# Altium footprint library Footprint_Emile.PcbLib: 30 footprints (part 1 of 2)
Each footprint in its own frame and in the unit in brackets; x right, y up, seen from the top. Pads: shape width x height; smd on the part's side, far side on the other; paste and mask are expansions set on the pad; w line width, h text height; cw(c..) or ccw(c..) is an arc to the next point about the centre after c.
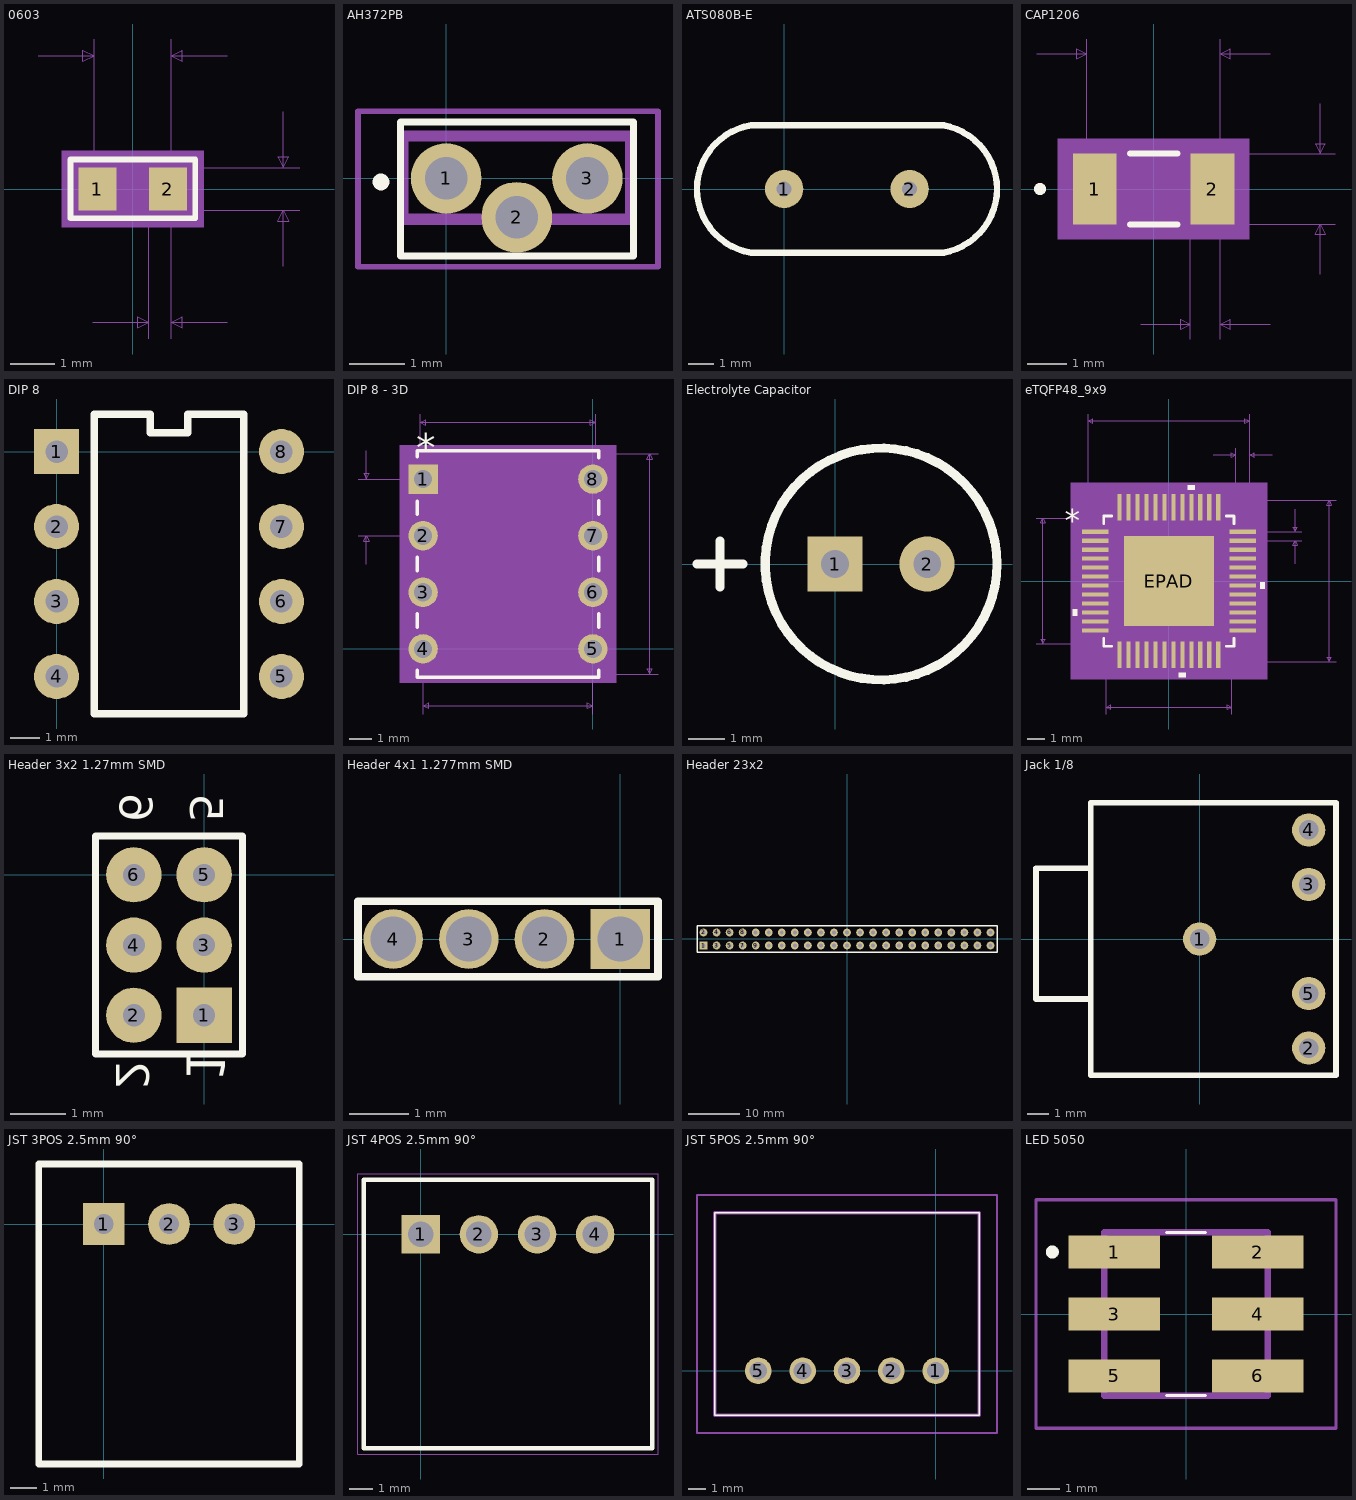
[diagram p0: the footprints below, top view; thin cyan lines are the x and y axes]

## 0603 [mil]
pads (2):
  rect 34x38 smd: 1(-31.5,0) 2(31.5,0)
Top Overlay:
  lines w5: -55.51,-25.98 55.91,-25.98 55.91,26.38 -55.51,26.38 -55.51,-25.98
Mechanical 5:
  region: 63.5,-34 -63.5,-34 -63.5,34 63.5,34
Mechanical 7:
  lines w1: -84.5,119 -34.5,119 ; -35.5,-119 14.5,-119 ; -34.5,0 -34.5,134 ; 0,-19 149.5,-19 ; 0,19 149.5,19 ; 14.5,-134 14.5,0 ; 34.5,-134 34.5,0 34.5,134 ; 84.5,-119 34.5,-119 ; 84.5,119 34.5,119 ; 134.5,-69 134.5,-19 ; 134.5,69 134.5,19 ; -34.5,119 -44.5,114 -44.5,124 -34.5,119 ; 14.5,-119 4.5,-124 4.5,-114 14.5,-119 ; 34.5,-119 44.5,-124 44.5,-114 34.5,-119 ; 34.5,119 44.5,114 44.5,124 34.5,119 ; 134.5,-19 139.5,-29 129.5,-29 134.5,-19 ; 134.5,19 139.5,29 129.5,29 134.5,19
  text "0.02in/0.508mm" at -63,-164 h25
  text "0.069in/1.753mm" at -93.75,139 h25
  text "0.038in/0.965mm" at 154.5,-12.5 h25
  text "Alternate 2 Padstyle: OX90Y60D30P" at -412.5,-489 h50
  text "Alternate 1 Padstyle: OX60Y90D30P" at -412.5,-389 h50
  text "Default Padstyle: RX34Y38D0T" at -350,-289 h50
Mechanical 13:
  lines w1: -34.5,-19 -34.5,19 ; -34.5,-19 34.5,-19 ; -34.5,-19 -14.5,-19 -14.5,19 -34.5,19 ; -34.5,-19 -34.5,19 ; -34.5,19 34.5,19 ; 34.5,-19 34.5,19 ; 34.5,-19 34.5,19 ; 34.5,-19 14.5,-19 14.5,19 34.5,19
Mechanical 15:
  region: 58.5,-29 -58.5,-29 -58.5,29 58.5,29
  lines w6: -58.5,-29 58.5,-29 58.5,29 -58.5,29 -58.5,-29
3D body: height 10, standoff 0, extent 0,0 10,10
3D body "0603.step": height 35, standoff 0, extent -34.48,-19.01 34.5,19.02

## AH372PB [mil]
pads (3):
  round 50 hole 30: 1(0,0) 2(50,-27.56) 3(100,0)
Top Overlay:
  lines w5: -32.5,-55 -32.5,40 132.5,40 132.5,-55 -32.5,-55
  lines w7.87: -48.19,-2.5 cw(c-46.22,-2.5) -44.25,-2.5 cw(c-46.22,-2.5) -48.19,-2.5
Mechanical 13:
  lines w7.87: -30.71,-28.94 -30.71,30.12 130.71,30.12 130.71,-28.94 -30.71,-28.94
Mechanical 15:
  lines w3.94: -62.5,-62.5 -62.5,47.5 150,47.5 150,-62.5 -62.5,-62.5

## ATS080B-E [mil] "Crystal/ Oscillator 8MHz"
height 144.88
pads (2):
  round 60 hole 23.62: 1(0,0) 2(196.85,0)
Top Overlay:
  lines w10: -51.71,-100 cw(c-35.43,0) -51.71,100 ; -50,-100 250,-100 ; -50,100 250,100 ; 249.41,-100 ccw(c232.28,0) 249.41,100
3D body: height 157.48, standoff 0, extent -50,-100 249.41,100
3D body: height 157.48, standoff 0, extent -151.18,-99.87 48.82,99.88
3D body: height 157.48, standoff 0, extent 148.04,-99.87 348.04,99.88
3D body: height 106.3, standoff 0, extent -129.92,102.36 -129.92,102.36
3D body: height 106.3, standoff 0, extent -50,100 -50,100

## CAP1206 [mil]
pads (2):
  rect 44x71 smd: 1(-59,0) 2(59,0)
Top Overlay:
  circle w6: c-114,0 r3
  lines w6: -23.9,-35.5 23.9,-35.5 ; -23.9,35.5 23.9,35.5
Mechanical 5:
  region: 96,-50.5 -96,-50.5 -96,50.5 96,50.5
Mechanical 7:
  lines w1: -117,135.5 -67,135.5 ; -67,0 -67,150.5 ; -13,-135.5 37,-135.5 ; 0,-35.5 182,-35.5 ; 0,35.5 182,35.5 ; 37,-150.5 37,0 ; 67,-150.5 67,0 67,150.5 ; 117,-135.5 67,-135.5 ; 117,135.5 67,135.5 ; 167,-85.5 167,-35.5 ; 167,85.5 167,35.5 ; -67,135.5 -77,140.5 -77,130.5 -67,135.5 ; 37,-135.5 27,-130.5 27,-140.5 37,-135.5 ; 67,-135.5 77,-130.5 77,-140.5 67,-135.5 ; 67,135.5 77,140.5 77,130.5 67,135.5 ; 167,-35.5 162,-45.5 172,-45.5 167,-35.5 ; 167,35.5 162,45.5 172,45.5 167,35.5
  text "Default Padstyle: RX44Y71D0T" at -350,-305.5 h50
  text "Alternate 1 Padstyle: OX60Y90D30P" at -412.5,-405.5 h50
  text "Alternate 2 Padstyle: OX90Y60D30P" at -412.5,-505.5 h50
  text "0.071in/1.803mm" at 187,-12.5 h25
  text "0.134in/3.404mm" at -93.75,155.5 h25
  text "0.03in/0.762mm" at -35.5,-180.5 h25
Mechanical 13:
  circle w0: c-114,0 r3
  lines w1: -67,-35.5 -67,35.5 ; -67,-35.5 -37,-35.5 -37,35.5 -67,35.5 ; -67,-35.5 67,-35.5 ; -67,-35.5 -67,35.5 ; -67,35.5 67,35.5 ; 67,-35.5 37,-35.5 37,35.5 67,35.5 ; 67,-35.5 67,35.5 ; 67,-35.5 67,35.5
Mechanical 15:
  region: 91,-45.5 -91,-45.5 -91,45.5 91,45.5
  lines w6: -91,-45.5 -91,45.5 91,45.5 91,-45.5 -91,-45.5
3D body "C1206.step": height 37.01, standoff 0, extent -67,-35.51 67.01,35.52
3D body: height 10, standoff 0, extent 0,0 10,10

## DIP 8 [mil]
pads (8):
  rect 60x60 hole 30: 1(0,0)
  round 60 hole 30: 2(0,-100) 3(0,-200) 4(0,-300) 5(300,-300) 6(300,-200) 7(300,-100) 8(300,0)
Top Overlay:
  lines w10: 50,-350 50,-300 50,50 125,50 125,25 175,25 175,50 250,50 250,-350 50,-350

## DIP 8 - 3D [mil]
pads (8):
  rect 52x52 hole 32: 1(-300,300)
  round 52 hole 32: 2(-300,200) 3(-300,100) 4(-300,0) 5(0,0) 6(0,100) 7(0,200) 8(0,300)
Top Overlay:
  lines w6: -310,-37.8 -310,-50 10,-50 10,-37.8 ; -310,37.8 -310,62.2 ; -310,137.8 -310,162.2 ; -310,237.8 -310,260.9 ; -310,339.1 -310,350 10,350 10,337.8 ; 10,37.8 10,62.2 ; 10,137.8 10,162.2 ; 10,237.8 10,262.2
  text "*" at -312.5,331 h50
Mechanical 5:
  region: 41,-60 -341,-60 -341,360 41,360
Mechanical 7:
  lines w1: -415,200 -300,200 ; -415,300 -300,300 ; -400,150 -400,200 ; -400,350 -400,300 ; -305,0 -305,415 ; -300,-115 -300,0 ; -150,-45 115,-45 ; -150,345 115,345 ; 0,-115 0,0 ; 5,0 5,415 ; -400,200 -405,190 -395,190 -400,200 ; -400,300 -405,310 -395,310 -400,300 ; -305,400 5,400 ; -305,400 -295,405 -295,395 -305,400 ; -300,-100 0,-100 ; -300,-100 -290,-95 -290,-105 -300,-100 ; 0,-100 -10,-95 -10,-105 0,-100 ; 5,400 -5,405 -5,395 5,400 ; 100,-45 100,345 ; 100,-45 95,-35 105,-35 100,-45 ; 100,345 95,335 105,335 100,345
  text "Default Padstyle: EX52Y52D32P" at -512.5,-276 h50
  text "Pin 1 Padstyle: SX52Y52D32P" at -487.5,-376 h50
  text "Alt 1 Padstyle: OX60Y90D30P" at -487.5,-426 h50
  text "Alt 2 Padstyle: OX90Y60D30P" at -487.5,-476 h50
  text "0.1in/2.54mm" at -570,237.5 h25
  text "0.3in/7.62mm" at -225,-145 h25
  text "0.31in/7.874mm" at -237.5,420 h25
  text "0.39in/9.906mm" at 120,137.5 h25
Mechanical 13:
  lines w0: -162,345 ccw(c-150,345) -138,345
  lines w1: -316,-16 -316,16 -305,16 -305,-16 -316,-16 ; -316,84 -316,116 -305,116 -305,84 -316,84 ; -316,184 -316,216 -305,216 -305,184 -316,184 ; -316,284 -316,316 -305,316 -305,284 -316,284 ; -305,-45 5,-45 5,345 -305,345 -305,-45 ; 5,-16 5,16 16,16 16,-16 5,-16 ; 5,84 5,116 16,116 16,84 5,84 ; 5,184 5,216 16,216 16,184 5,184 ; 5,284 5,316 16,316 16,284 5,284
  text "*" at -307.5,275 h50
Mechanical 15:
  region: 15,-10 36,-10 36,310 15,310 15,355 -315,355 -315,310 -336,310 -336,-10 -315,-10 -315,-55 15,-55
  lines w6: -336,-10 -336,310 -315,310 -315,355 15,355 15,310 36,310 36,-10 15,-10 15,-55 -315,-55 -315,-10 -336,-10
3D body "MAX485.step": height 185.12, standoff -100, extent -309.61,-45 5,345
3D body: height 10, standoff 0, extent 0,0 10,10

## Electrolyte Capacitor [mil]
pads (2):
  rect 60x60 hole 30: 1(0,0)
  round 60 hole 30: 2(100,0)
Top Overlay:
  circle w10: c50,0 r125.98
  lines w10: -150,0 -100,0 ; -125,-25 -125,0 -125,25

## eTQFP48_9x9 [mil]
pads (49):
  rect 58x9 smd paste+0 mask+0: 1(-162,108.27) 2(-162,88.58) 3(-162,68.9) 4(-162,49.21) 5(-162,29.53) 6(-162,9.84) 7(-162,-9.84) 8(-162,-29.53) 9(-162,-49.21) 10(-162,-68.9) 11(-162,-88.58) 12(-162,-108.27) 25(162,-108.27) 26(162,-88.58) 27(162,-68.9) 28(162,-49.21) 29(162,-29.53) 30(162,-9.84) 31(162,9.84) 32(162,29.53) 33(162,49.21) 34(162,68.9) 35(162,88.58) 36(162,108.27)
  rect 9x58 smd paste+0 mask+0: 13(-108.27,-162) 14(-88.58,-162) 15(-68.9,-162) 16(-49.21,-162) 17(-29.53,-162) 18(-9.84,-162) 19(9.84,-162) 20(29.53,-162) 21(49.21,-162) 22(68.9,-162) 23(88.58,-162) 24(108.27,-162) 37(108.27,162) 38(88.58,162) 39(68.9,162) 40(49.21,162) 41(29.53,162) 42(9.84,162) 43(-9.84,162) 44(-29.53,162) 45(-49.21,162) 46(-68.9,162) 47(-88.58,162) 48(-108.27,162)
  rect 197x197 smd paste-98 mask+0: EPAD(0,0)
Top Overlay:
  region: -201,-61.4 -211,-61.4 -211,-76.4 -201,-76.4
  region: 37.03,-201 22.03,-201 22.03,-211 37.03,-211
  region: 201,-2.34 211,-2.34 211,-17.34 201,-17.34
  region: 56.71,201 41.71,201 41.71,211 56.71,211
  lines w6: -143,-125.87 -143,-143 -125.87,-143 ; -143,125.87 -143,143 -125.87,143 ; 125.87,-143 143,-143 143,-125.87 ; 125.87,143 143,143 143,125.87
  text "*" at -228.5,108.11 h50
Top Paste:
  region: -36.77,94.56 -94.56,94.56 -94.56,36.77 -36.77,36.77
  region: -36.77,28.9 -94.56,28.9 -94.56,-28.9 -36.77,-28.9
  region: -36.77,-36.77 -94.56,-36.77 -94.56,-94.56 -36.77,-94.56
  region: 28.9,94.56 -28.9,94.56 -28.9,36.77 28.9,36.77
  region: 28.9,28.9 -28.9,28.9 -28.9,-28.9 28.9,-28.9
  region: 28.9,-36.77 -28.9,-36.77 -28.9,-94.56 28.9,-94.56
  region: 94.56,94.56 36.77,94.56 36.77,36.77 94.56,36.77
  region: 94.56,28.9 36.77,28.9 36.77,-28.9 94.56,-28.9
  region: 94.56,-36.77 36.77,-36.77 36.77,-94.56 94.56,-94.56
Mechanical 5:
  region: 216,-216 -216,-216 -216,216 216,216
Mechanical 7:
  lines w1: -292,-138 -108.27,-138 ; -292,138 -108.27,138 ; -177,108.27 -177,367 ; -138,-292 -138,-108.27 ; 97,277 147,277 ; 108.27,-177 367,-177 ; 108.27,177 367,177 ; 138,-292 138,-108.27 ; 147,108.27 147,292 ; 162,88.58 292,88.58 ; 162,108.27 292,108.27 ; 177,292 177,108.27 177,367 ; 227,277 177,277 ; 277,38.58 277,88.58 ; 277,158.27 277,108.27 ; -277,-138 -277,138 ; -277,-138 -282,-128 -272,-128 -277,-138 ; -277,138 -282,128 -272,128 -277,138 ; -177,352 177,352 ; -177,352 -167,357 -167,347 -177,352 ; -138,-277 138,-277 ; -138,-277 -128,-272 -128,-282 -138,-277 ; 138,-277 128,-272 128,-282 138,-277 ; 147,277 137,282 137,272 147,277 ; 177,277 187,282 187,272 177,277 ; 177,352 167,357 167,347 177,352 ; 277,88.58 272,78.58 282,78.58 277,88.58 ; 277,108.27 272,118.27 282,118.27 277,108.27 ; 352,-177 352,177 ; 352,-177 347,-167 357,-167 352,-177 ; 352,177 347,167 357,167 352,177
  text "Default Horiz Padstyle: RX9Y58D0T" at -412.5,-427 h50
  text "Default Vert Padstyle: RX9Y58D0T" at -400,-487 h50
  text "Heat Tab Padstyle: RX197Y197D0T" at -387.5,-547 h50
  text "Alt 1 Padstyle: OX60Y90D30P" at -337.5,-667 h50
  text "Alt 2 Padstyle: OX90Y60D30P" at -337.5,-727 h50
  text "0.02in/0.5mm" at 297,85.93 h25
  text "0.03in/0.762mm" at 74.5,297 h25
  text "0.354in/8.992mm" at -93.75,372 h25
  text "0.276in/7.01mm" at -87.5,-322 h25
  text "0.276in/7.01mm" at -472,-12.5 h25
  text "0.354in/8.992mm" at 372,-12.5 h25
Mechanical 13:
  drawing of 197 lines, arcs and shapes, not listed
  text "*" at -135.5,93.11 h50
Mechanical 15:
  region: -122.77,-148 -148,-148 -148,-122.77 -201,-122.77 -201,122.77 -148,122.77 -148,148 -122.77,148 -122.77,201 122.77,201 122.77,148 148,148 148,122.77 201,122.77 201,-122.77 148,-122.77 148,-148 122.77,-148 122.77,-201 -122.77,-201
  lines w6: -201,-122.77 -148,-122.77 -148,-148 -122.77,-148 -122.77,-201 122.77,-201 122.77,-148 148,-148 148,-122.77 201,-122.77 201,122.77 148,122.77 148,148 122.77,148 122.77,201 -122.77,201 -122.77,148 -148,148 -148,122.77 -201,122.77 -201,-122.77
3D body: height 10, standoff 0, extent 0,0 10,10
3D body "TMC2130.step": height 47.09, standoff -2.01, extent -177,-177 177.01,177.01

## Header 3x2 1.27mm SMD [mm]
pads (6):
  rect 1x1 hole 0.4: 1(0,-2.54)
  round 1 hole 0.4: 2(-1.27,-2.54) 3(0,-1.27) 4(-1.27,-1.27) 5(0,0) 6(-1.27,0)
Top Overlay:
  lines w0.127: -1.968,-3.238 0.699,-3.238 0.699,0.699 -1.968,0.699 -1.968,-3.238
  text "5" at -0.254,0.953 h0.6
  text "6" at -1.524,0.953 h0.6
  text "2" at -1.587,-3.873 h0.6
  text "1" at -0.318,-3.746 h0.7

## Header 4x1 1.277mm SMD [mm]
pads (4):
  rect 1x1 hole 0.762: 1(0,0)
  round 1 hole 0.762: 2(-1.27,0) 3(-2.54,0) 4(-3.81,0)
Top Overlay:
  lines w0.127: -4.4,-0.635 -4.4,0.635 0.635,0.635 0.635,-0.635 -4.4,-0.635

## Header 23x2 [mil]
pads (46):
  rect 60x60 hole 30: 1(-1100,-50)
  round 60 hole 30: 2(-1100,50) 3(-1000,-50) 4(-1000,50) 5(-900,-50) 6(-900,50) 7(-800,-50) 8(-800,50) 9(-700,-50) 10(-700,50) 11(-600,-50) 12(-600,50) 13(-500,-50) 14(-500,50) 15(-400,-50) 16(-400,50) 17(-300,-50) 18(-300,50) 19(-200,-50) 20(-200,50) 21(-100,-50) 22(-100,50) 23(0,-50) 24(0,50) 25(100,-50) 26(100,50) 27(200,-50) 28(200,50) 29(300,-50) 30(300,50) 31(400,-50) 32(400,50) 33(500,-50) 34(500,50) 35(600,-50) 36(600,50) 37(700,-50) 38(700,50) 39(800,-50) 40(800,50) 41(900,-50) 42(900,50) 43(1000,-50) 44(1000,50) 45(1100,-50) 46(1100,50)
Top Overlay:
  lines w10: -1150,-100 1150,-100 1150,100 -1150,100 -1150,-100

## Jack 1/8 [mm]
pads (5):
  round 1.524 hole 0.9: 1(0,0) 2(5,-5) 3(5,2.5) 4(5,5) 5(5,-2.5)
Top Overlay:
  lines w0.254: -5,-2.75 -7.5,-2.75 -7.5,0.25 -7.5,3.25 -5,3.25 ; -5,-6.25 -5,-6 -5,6.25 6.25,6.25 6.25,-6.25 5,-6.25 -5,-6.25
3D body: height 6, standoff 0, extent -7.5,-6.25 6.25,6.25

## JST 3POS 2.5mm 90° [mm]
pads (3):
  rect 1.6x1.6 hole 0.762: 1(0,0)
  round 1.6 hole 0.762: 2(2.5,0) 3(5,0)
Top Overlay:
  lines w0.254: -2.5,-9.2 -2.5,0 -2.5,2.3 7.5,2.3 7.5,-9.2 -2.5,-9.2
3D body: height 5, standoff 0, extent -2.5,-9.2 7.5,2.3

## JST 4POS 2.5mm 90° [mm]
pads (4):
  rect 1.65x1.65 hole 1.1: 1(0,0)
  round 1.65 hole 1.1: 2(2.5,0) 3(5,0) 4(7.5,0)
Top Overlay:
  lines w0.2: -2.45,-9.2 0,-9.2 9.95,-9.2 9.95,2.35 -2.45,2.35 -2.45,0 -2.45,-9.2
Mechanical 13:
  lines w0.1: -2.45,-9.2 9.95,-9.2 9.95,2.35 -2.45,2.35 -2.45,-9.2
Mechanical 15:
  lines w0.05: -2.7,-9.45 10.2,-9.45 10.2,2.6 -2.7,2.6 -2.7,-9.45
3D body: height 6, standoff 0, extent -2.45,-9.2 9.95,2.35

## JST 5POS 2.5mm 90° [mm]
pads (5):
  round 1.5 hole 1: 1(0,0) 2(-2.5,0) 3(-5,0) 4(-7.5,0) 5(-10,0)
Top Overlay:
  lines w0.1: -12.45,-2.5 2.45,-2.5 2.45,8.9 -12.45,8.9 -12.45,-2.5
Mechanical 13:
  lines w0.2: -12.45,-2.5 2.45,-2.5 2.45,8.9 -12.45,8.9 -12.45,-2.5
Mechanical 15:
  lines w0.1: -13.45,-3.5 3.45,-3.5 3.45,9.9 -13.45,9.9 -13.45,-3.5
3D body "S5B-XH-A-1_LF__SN_.stp": height 6.1, standoff -5, extent -12.45,-2.5 2.45,8.9
3D body: height 6, standoff 0, extent -12.45,-2.5 2.45,8.9

## LED 5050 [mm]
pads (6):
  rect 2.8x1 smd: 1(-2.2,1.9) 2(2.2,1.9) 3(-2.2,0) 4(2.2,0) 5(-2.2,-1.9) 6(2.2,-1.9)
Top Overlay:
  lines w0.1: -0.6,-2.5 0.6,-2.5 ; -0.6,2.5 0.6,2.5
  lines w0.2: -4.1,1.8 ccw(c-4.1,1.9) -4.1,2 ccw(c-4.1,1.9) -4.1,1.8
Mechanical 13:
  lines w0.2: -2.5,-2.5 -2.5,2.5 2.5,2.5 2.5,-2.5 -2.5,-2.5
Mechanical 15:
  lines w0.1: -4.6,-3.5 -4.6,3.5 4.6,3.5 4.6,-3.5 -4.6,-3.5
3D body: height 1.2, standoff 0, extent -2.6,-2.5 2.4,2.5
3D body: height 2.7, standoff 0, extent -2.1,2.5 -2.1,2.5
3D body: height 2.7, standoff 0, extent -1.5,2.5 -1.5,2.5
3D body: height 2.7, standoff 0, extent -1.5,2.6 -1.5,2.6
3D body: height 2.7, standoff 0, extent -1.778,2.54 -1.778,2.54
3D body: height 1.3, standoff 1.2, extent -1.775,-1.85 1.825,1.75